# Altium schematic symbol library crystal.SchLib: 10 symbols
Pins are listed as number, name and electrical type; pins without a type are passive.

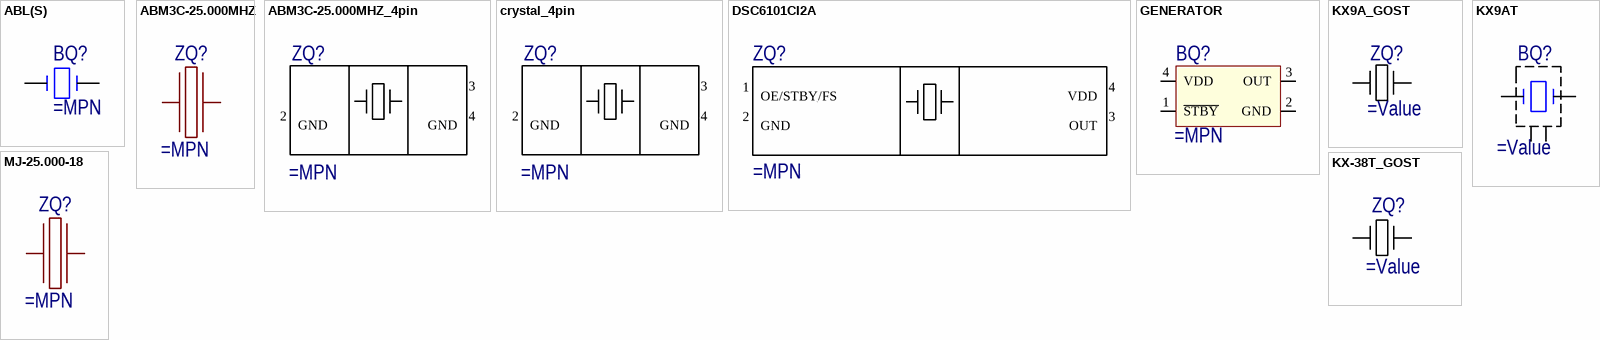
[diagram p0: symbols ABL(S) to MJ-25.000-18]

## ABL(S)
designator BQ?
pins: 1, 2

## ABM3C-25.000MHZ
designator ZQ?
CRYSTAL 25.0000MHZ 18PF SMD
pins: 1, 3

## ABM3C-25.000MHZ_4pin
designator ZQ?
CRYSTAL 25.0000MHZ 18PF SMD
pins: 1, 1, 1, 2 GND, 3, 3, 3, 4 GND

## crystal_4pin
designator ZQ?
CRYSTAL 25.0000MHZ 18PF SMD
pins: 1, 1, 1, 2 GND, 3, 3, 3, 4 GND

## DSC6101CI2A
designator ZQ?
CRYSTAL 25.0000MHZ 18PF SMD
pins: 1, 1 OE/STBY/FS, 1, 2 GND, 3 OUT, 4 VDD

## GENERATOR
designator BQ?
footprint KX7T (Footprint not found)
pins: 1 ~{STBY}, 2 GND, 3 OUT, 4 VDD

## KX9A_GOST
designator ZQ?
pins: 1, 3

## KX9AT
designator BQ?
pins: 1, 2, 3, 4

## KX-38T_GOST
designator ZQ?
pins: 1, 2

## MJ-25.000-18
designator ZQ?
CRYSTAL 25.0000MHZ 18PF SMD
pins: 2, 4